# Altium footprint library PcbLib.PcbLib: 19 footprints (part 2 of 2)
Each footprint in its own frame and in the unit in brackets; x right, y up, seen from the top. Pads: shape width x height; smd on the part's side, far side on the other; paste and mask are expansions set on the pad; w line width, h text height; cw(c..) or ccw(c..) is an arc to the next point about the centre after c.
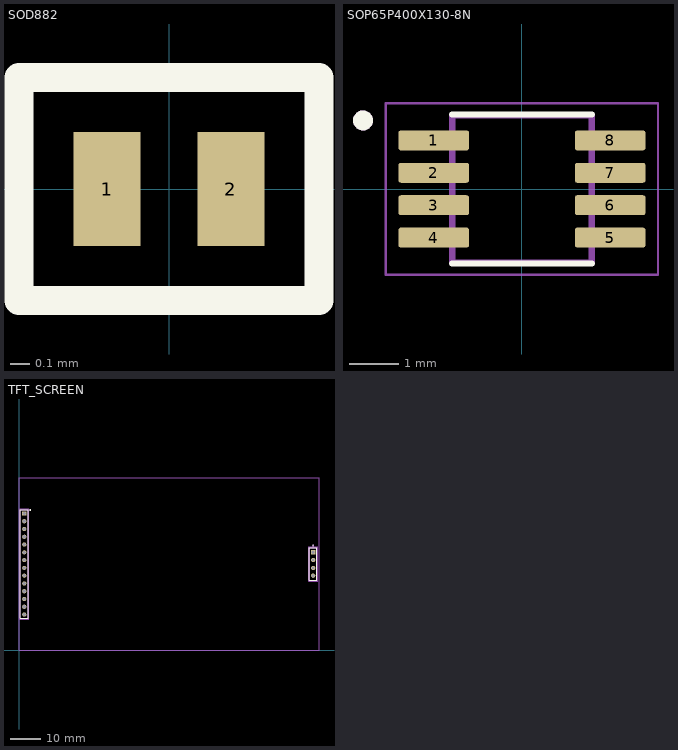
[diagram p1: the footprints below, top view; thin cyan lines are the x and y axes]

## SOD882 [mm]
pads (2):
  rect 0.35x0.6 smd: 1(-0.325,0) 2(0.325,0)
Top Overlay:
  lines w0.152: -0.787,-0.584 -0.787,0.584 0.787,0.584 0.787,-0.584 -0.787,-0.584
3D body "AQ3045-01ETG.stp": height 0.42, standoff -0.01, extent -0.535,-0.335 0.535,0.34

## SOP65P400X130-8N [mm]
pads (8):
  rrect25% 1.42x0.4 smd: 1(-1.77,0.975) 2(-1.77,0.325) 3(-1.77,-0.325) 4(-1.77,-0.975) 5(1.77,-0.975) 6(1.77,-0.325) 7(1.77,0.325) 8(1.77,0.975)
Top Overlay:
  circle w0.2: c-3.19,1.375 r0.1
  lines w0.127: -1.4,-1.495 1.4,-1.495 ; -1.4,1.495 1.4,1.495
Top 3D Body:
  circle w0.2: c-3.19,1.375 r0.1
  lines w0.127: -1.4,-1.475 -1.4,1.475 1.4,1.475 1.4,-1.475 -1.4,-1.475
Top Courtyard:
  lines w0.05: -2.73,-1.725 -2.73,1.725 2.73,1.725 2.73,-1.725 -2.73,-1.725
3D body "TXS0102DCTR.STEP": height 1.3, standoff 0, extent -2.051,-1.475 1.949,1.475

## TFT_SCREEN [mm] "3.5 TFT LCD"
pads (22):
  rect 1.37x1.37 hole 1.02: 01(1.727,44.679)
  round 1.37 hole 1.02: 02(1.727,42.139) 03(1.727,39.599) 04(1.727,37.059) 05(1.727,34.519) 06(1.727,31.979) 07(1.727,29.439) 08(1.727,26.899) 09(1.727,24.359) 10(1.727,21.819) 11(1.727,19.279) 12(1.727,16.739) 13(1.727,14.199) 14(1.727,11.659)
  rect 1.39x1.39 hole 1.04: 15(96.088,31.979)
  round 1.39 hole 1.04: 16(96.088,29.439) 17(96.088,26.899) 18(96.088,24.359)
  oval 1.5x1.55 on Drill Guide: ""(2.22,3.42) ""(95.78,3.42) ""(95.78,52.92)
  oval 1.55x1.5 on Drill Guide: ""(2.22,53.02)
Top Overlay:
  circle w0.2: c3.683,45.822 r0.1
  circle w0.2: c96.088,34.154 r0.1
  lines w0.2: 0.457,10.389 2.997,10.389 2.997,45.949 0.457,45.949 0.457,10.389 ; 94.882,22.834 97.333,22.834 97.333,33.504 94.882,33.504 94.882,22.834
Mechanical 1:
  lines w0.254: 0,0 0,56.34 98,56.34 98,0 0,0
Top 3D Body:
  circle w0.2: c96.139,34.154 r0.1
  circle w0.2: c3.683,45.822 r0.1
  lines w0.1: 0.457,10.389 0.457,45.949 ; 0.457,10.389 0.457,45.949 ; 0.457,10.389 2.997,10.389 2.997,45.949 0.457,45.949 ; 94.932,22.834 97.346,22.834 ; 94.932,22.834 97.346,22.834 ; 94.932,22.834 94.932,33.504 ; 94.932,33.504 97.346,33.504 ; 94.932,33.504 97.346,33.504 ; 97.346,22.834 97.346,33.504 ; 97.346,22.834 97.346,33.504
Top Courtyard:
  lines w0.05: 0.207,10.139 3.247,10.139 3.247,46.199 0.207,46.199 ; 0.229,10.168 0.229,46.228 ; 94.632,22.584 97.545,22.584 97.545,33.754 94.632,33.754 94.632,22.584
3D body "4Pin Header.stp": height 4.25, standoff -7.35, extent 94.914,22.813 97.414,33.473
3D body "PPTC141LFBN-RC.STEP": height 8.51, standoff -3.2, extent 0.457,9.881 2.997,45.949
3D body "3.5inch LCD Display Module SPI TFT ILI9488 65K Color Expandable Screen Panel HD v1.step": height 17.94, standoff 2, extent 0,0 98,56.5
3D body "SD_CARD.STEP": height 12.55, standoff 10.1, extent 69.95,40.84 86.05,55.84